# Altium footprint library SAMTEC-SMH-103-02-X-S.PCBLIB: 1 footprints
Each footprint in its own frame and in the unit in brackets; x right, y up, seen from the top. Pads: shape width x height; smd on the part's side, far side on the other; paste and mask are expansions set on the pad; w line width, h text height; cw(c..) or ccw(c..) is an arc to the next point about the centre after c.
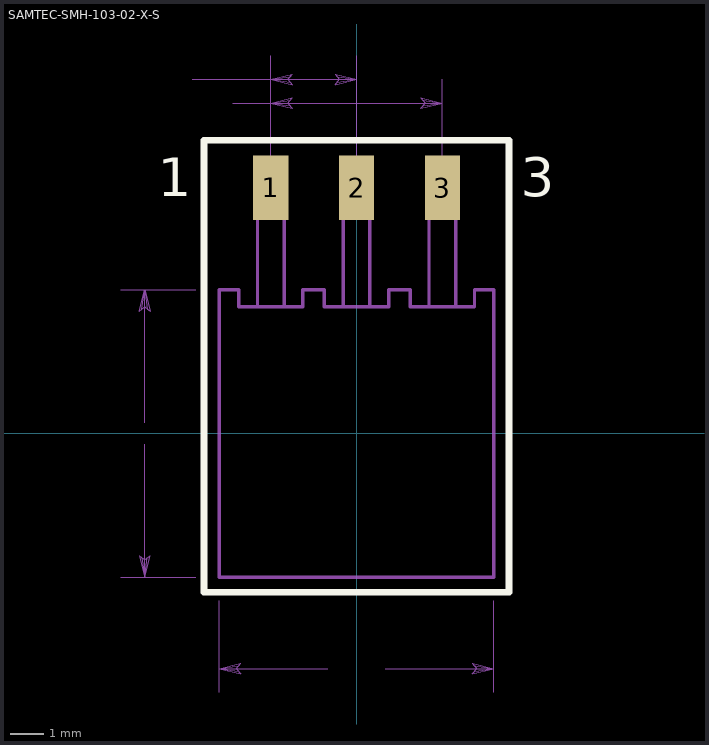
[diagram p0: the footprint, top view; thin cyan lines are the x and y axes]

## SAMTEC-SMH-103-02-X-S [mil]
pads (3):
  rect 40.95x75.2 smd: 1(-100,286.5) 2(0,286.5) 3(100,286.5)
Top Overlay:
  lines w7.87: -177.72,-185.24 177.72,-185.24 177.72,341.85 -177.72,341.85 -177.72,-185.24
  text "3" at 191.14,261.5 h77.5
  text "1" at -231.65,261.5 h77.5
Top Paste:
  rectangle: 79.53,248.9 120.47,324.09
  rectangle: -20.47,248.9 20.47,324.09
  rectangle: -120.47,248.9 -79.53,324.09
Top Solder:
  rectangle: 77.52,246.89 122.48,326.1
  rectangle: -22.48,246.89 22.48,326.1
  rectangle: -122.48,246.89 -77.52,326.1
Mechanical 16:
  lines w3.94: -115.51,147.48 -115.51,302.52 -84.49,302.52 -84.49,147.48 ; -15.51,147.48 -15.51,302.52 15.51,302.52 15.51,147.48 ; 84.49,147.48 84.49,302.52 115.51,302.52 115.51,147.48 ; -160,-167.48 -160,167.48 -137.48,167.48 -137.48,147.48 -62.52,147.48 -62.52,167.48 -50,167.48 -37.48,167.48 -37.48,147.48 37.48,147.48 37.48,167.48 50,167.48 62.52,167.48 62.52,147.48 137.48,147.48 137.48,167.48 160,167.48 160,-167.48 50,-167.48 -50,-167.48 -160,-167.48
  text "3" at 191.14,261.5 h77.5
  text "1" at -231.65,261.5 h77.5
Mechanical 40:
  lines w0: -274.61,-167.48 -187.6,-167.48 ; -274.61,167.48 -187.6,167.48 ; -247.01,-12.52 -247.01,-167.48 ; -247.01,12.52 -247.01,167.48 ; -191.5,412.52 -100,412.52 ; -160,-301.61 -160,-195.12 ; -144.02,385 -100,385 ; -100,412.6 -100,314.09 -100,440.12 ; -33.5,-274.02 -160,-274.02 ; 0,314.09 0,440.12 ; 33.5,-274.02 160,-274.02 ; 100,314.09 100,412.6 ; 160,-301.61 160,-195.12 ; -253.27,-142.52 -250.12,-145 -247.01,-167.48 ; -253.27,-142.52 -247.01,-147.48 ; -253.27,-142.52 -247.01,-167.48 ; -247.01,-167.48 -247.01,-147.48 ; -247.01,-167.48 -243.86,-145 -247.01,-147.48 ; -247.01,-167.48 -240.75,-142.52 -247.01,-147.48 ; -247.01,147.48 -247.01,167.48 ; -247.01,147.48 -250.12,145 -247.01,167.48 ; -247.01,147.48 -240.75,142.52 ; -247.01,147.48 -253.27,142.52 -247.01,167.48 ; -247.01,167.48 -243.86,145 -240.75,142.52 ; -247.01,167.48 -240.75,142.52 ; -160,-274.02 -137.48,-270.87 -135,-267.76 ; -160,-274.02 -140,-274.02 ; -160,-274.02 -137.48,-277.13 -140,-274.02 ; -160,-274.02 -135,-280.24 -140,-274.02 ; -160,-274.02 -135,-267.76 ; -140,-274.02 -135,-267.76 ; -100,385 100,385 ; -100,385 -77.48,388.11 -75,391.26 ; -100,385 -80,385 ; -100,385 -77.48,381.89 -80,385 ; -100,385 -75,378.74 -80,385 ; -100,385 -75,391.26 ; -100,412.52 0,412.52 ; -100,412.52 -77.48,415.63 -75,418.74 ; -100,412.52 -80,412.52 ; -100,412.52 -77.48,409.37 -80,412.52 ; -100,412.52 -75,406.26 -80,412.52 ; -100,412.52 -75,418.74 ; -80,385 -75,391.26 ; -80,412.52 -75,418.74 ; -25,406.26 -22.52,409.37 0,412.52 ; -25,406.26 -20,412.52 ; -25,406.26 0,412.52 ; -20,412.52 0,412.52 ; -20,412.52 -22.52,415.63 0,412.52 ; -20,412.52 -25,418.74 0,412.52 ; 75,378.74 77.48,381.89 100,385 ; 75,378.74 80,385 ; 75,378.74 100,385 ; 80,385 100,385 ; 80,385 77.48,388.11 100,385 ; 80,385 75,391.26 100,385 ; 135,-280.24 137.48,-277.13 160,-274.02 ; 135,-280.24 140,-274.02 ; 135,-280.24 160,-274.02 ; 140,-274.02 160,-274.02 ; 140,-274.02 137.48,-270.87 160,-274.02 ; 140,-274.02 135,-267.76 160,-274.02
  text "8.128" at -25.98,-279.02 h15.5
  text "5.080" at -203.5,380 h15.5
  text "2.540" at -250.98,407.48 h15.5
  text "8.509" at -272.99,-5 h15.5
Mechanical 42:
  lines w3.94: -177.72,-185.24 177.72,-185.24 177.72,341.85 -177.72,341.85 -177.72,-185.24